# Altium schematic symbol library Capacitors - Ceramic - 01005.SchLib: 571 symbols (part 10 of 13)
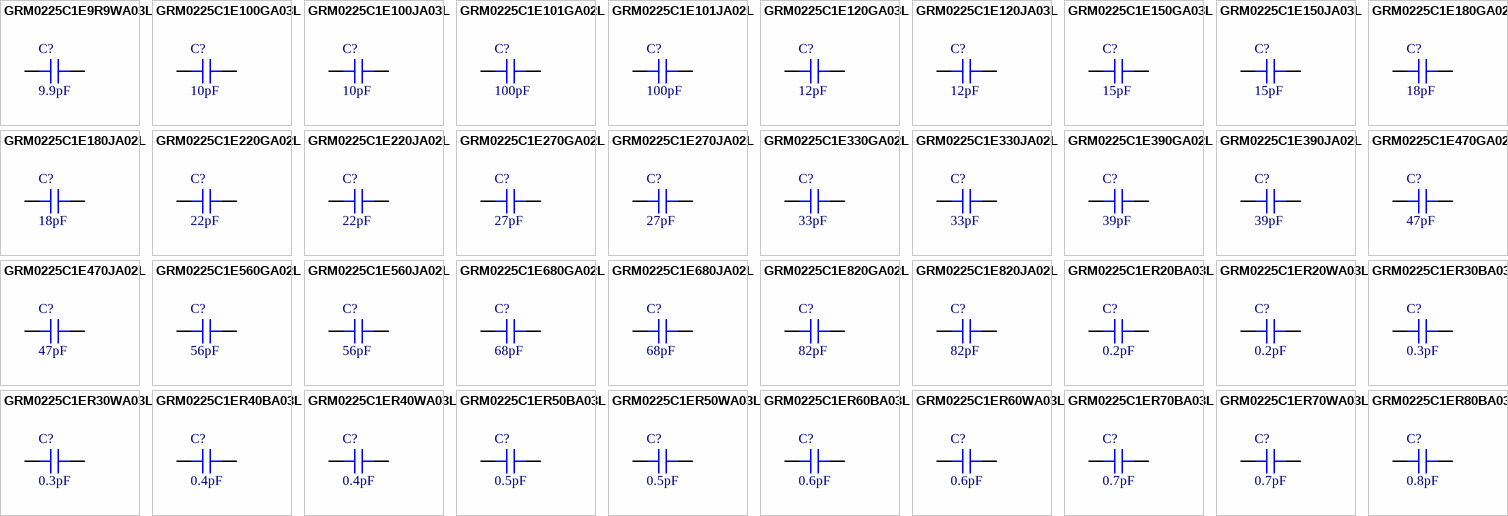
[diagram p23: symbols GRM0225C1E9R9WA03L to GRM0225C1ER80BA03L]

## GRM0225C1E470GA02L
designator C?, comment 47pF
CAP CER 47PF 25V C0G/NP0 01005; Part Number: GRM0225C1E470GA02L; Manufacturer: Murata Electronics; Temperature Coefficient: C0G, NP0; Tolerance: ±2%; Value: 47pF; Applications: General Purpose; Capacitance: 47pF; ComponentLink1Description: Datasheet; ComponentLink1URL: https://search.murata.co.jp/Ceramy/image/img/A01X/G101/ENG/GRM0225C1E470GA02-01.pdf; ComponentLink2Description: DigiKey Link; ComponentLink2URL: http://digikey.com/product-detail/en/murata-electronics/GRM0225C1E470GA02L/490-10133-1-ND/5026000; Device Package: 01005 (0402 Metric); LastUpdated: 9/2/2020 1:27:43 AM; Lifecycle Status: Active; Minimum Order: 1; Mounting Type: Surface Mount, MLCC; Operating Temperature: -55°C ~ 125°C; Package / Case: 01005 (0402 Metric); Packaging: TapeAndReel; Part Status: Active; Price: 0.01; Series: GRM; Size / Dimension: 0.016" L x 0.008" W (0.40mm x 0.20mm); Supplier 1: DigiKey; Supplier Part Number 1: 490-10133-1-ND; Thickness (Max): 0.009" (0.22mm); Voltage - Rated: 25V
footprint CAP 01005_0402
pins: 1, 2

## GRM0225C1E470JA02L
designator C?, comment 47pF
CAP CER 47PF 25V C0G/NP0 01005; Part Number: GRM0225C1E470JA02L; Manufacturer: Murata Electronics; Temperature Coefficient: C0G, NP0; Tolerance: ±5%; Value: 47pF; Applications: General Purpose; Capacitance: 47pF; ComponentLink1Description: Datasheet; ComponentLink1URL: https://search.murata.co.jp/Ceramy/image/img/A01X/G101/ENG/GRM0225C1E470JA02-01.pdf; ComponentLink2Description: DigiKey Link; ComponentLink2URL: http://digikey.com/product-detail/en/murata-electronics/GRM0225C1E470JA02L/490-10134-1-ND/5026001; Device Package: 01005 (0402 Metric); LastUpdated: 9/2/2020 1:27:44 AM; Lifecycle Status: Active; Minimum Order: 1; Mounting Type: Surface Mount, MLCC; Operating Temperature: -55°C ~ 125°C; Package / Case: 01005 (0402 Metric); Packaging: TapeAndReel; Part Status: Active; Price: 0.01; Series: GRM; Size / Dimension: 0.016" L x 0.008" W (0.40mm x 0.20mm); Supplier 1: DigiKey; Supplier Part Number 1: 490-10134-1-ND; Thickness (Max): 0.009" (0.22mm); Voltage - Rated: 25V
footprint CAP 01005_0402
pins: 1, 2

## GRM0225C1E560GA02L
designator C?, comment 56pF
CAP CER 56PF 25V C0G/NP0 01005; Part Number: GRM0225C1E560GA02L; Manufacturer: Murata Electronics; Temperature Coefficient: C0G, NP0; Tolerance: ±2%; Value: 56pF; Applications: General Purpose; Capacitance: 56pF; ComponentLink1Description: Datasheet; ComponentLink1URL: https://search.murata.co.jp/Ceramy/image/img/A01X/G101/ENG/GRM0225C1E560GA02-01.pdf; ComponentLink2Description: DigiKey Link; ComponentLink2URL: http://digikey.com/product-detail/en/murata-electronics/GRM0225C1E560GA02L/490-10165-1-ND/5026032; Device Package: 01005 (0402 Metric); LastUpdated: 9/2/2020 1:27:43 AM; Lifecycle Status: Active; Minimum Order: 1; Mounting Type: Surface Mount, MLCC; Operating Temperature: -55°C ~ 125°C; Package / Case: 01005 (0402 Metric); Packaging: TapeAndReel; Part Status: Active; Price: 0.01; Series: GRM; Size / Dimension: 0.016" L x 0.008" W (0.40mm x 0.20mm); Supplier 1: DigiKey; Supplier Part Number 1: 490-10165-1-ND; Thickness (Max): 0.009" (0.22mm); Voltage - Rated: 25V
footprint CAP 01005_0402
pins: 1, 2

## GRM0225C1E560JA02L
designator C?, comment 56pF
CAP CER 56PF 25V C0G/NP0 01005; Part Number: GRM0225C1E560JA02L; Manufacturer: Murata Electronics; Temperature Coefficient: C0G, NP0; Tolerance: ±5%; Value: 56pF; Applications: General Purpose; Capacitance: 56pF; ComponentLink1Description: Datasheet; ComponentLink1URL: https://search.murata.co.jp/Ceramy/image/img/A01X/G101/ENG/GRM0225C1E560JA02-01.pdf; ComponentLink2Description: DigiKey Link; ComponentLink2URL: http://digikey.com/product-detail/en/murata-electronics/GRM0225C1E560JA02L/490-10166-1-ND/5026033; Device Package: 01005 (0402 Metric); LastUpdated: 9/2/2020 1:27:43 AM; Lifecycle Status: Active; Minimum Order: 1; Mounting Type: Surface Mount, MLCC; Operating Temperature: -55°C ~ 125°C; Package / Case: 01005 (0402 Metric); Packaging: TapeAndReel; Part Status: Active; Price: 0.01; Series: GRM; Size / Dimension: 0.016" L x 0.008" W (0.40mm x 0.20mm); Supplier 1: DigiKey; Supplier Part Number 1: 490-10166-1-ND; Thickness (Max): 0.009" (0.22mm); Voltage - Rated: 25V
footprint CAP 01005_0402
pins: 1, 2

## GRM0225C1E680GA02L
designator C?, comment 68pF
CAP CER 68PF 25V C0G/NP0 01005; Part Number: GRM0225C1E680GA02L; Manufacturer: Murata Electronics; Temperature Coefficient: C0G, NP0; Tolerance: ±2%; Value: 68pF; Applications: General Purpose; Capacitance: 68pF; ComponentLink1Description: Datasheet; ComponentLink1URL: https://search.murata.co.jp/Ceramy/image/img/A01X/G101/ENG/GRM0225C1E680GA02-01.pdf; ComponentLink2Description: DigiKey Link; ComponentLink2URL: http://digikey.com/product-detail/en/murata-electronics/GRM0225C1E680GA02L/490-10206-1-ND/5026073; Device Package: 01005 (0402 Metric); LastUpdated: 9/2/2020 1:27:43 AM; Lifecycle Status: Active; Minimum Order: 1; Mounting Type: Surface Mount, MLCC; Operating Temperature: -55°C ~ 125°C; Package / Case: 01005 (0402 Metric); Packaging: TapeAndReel; Part Status: Active; Price: 0.01; Series: GRM; Size / Dimension: 0.016" L x 0.008" W (0.40mm x 0.20mm); Supplier 1: DigiKey; Supplier Part Number 1: 490-10206-1-ND; Thickness (Max): 0.009" (0.22mm); Voltage - Rated: 25V
footprint CAP 01005_0402
pins: 1, 2

## GRM0225C1E680JA02L
designator C?, comment 68pF
CAP CER 68PF 25V C0G/NP0 01005; Part Number: GRM0225C1E680JA02L; Manufacturer: Murata Electronics; Temperature Coefficient: C0G, NP0; Tolerance: ±5%; Value: 68pF; Applications: General Purpose; Capacitance: 68pF; ComponentLink1Description: Datasheet; ComponentLink1URL: https://search.murata.co.jp/Ceramy/image/img/A01X/G101/ENG/GRM0225C1E680JA02-01.pdf; ComponentLink2Description: DigiKey Link; ComponentLink2URL: http://digikey.com/product-detail/en/murata-electronics/GRM0225C1E680JA02L/490-10207-1-ND/5026074; Device Package: 01005 (0402 Metric); LastUpdated: 9/2/2020 1:27:44 AM; Lifecycle Status: Active; Minimum Order: 1; Mounting Type: Surface Mount, MLCC; Operating Temperature: -55°C ~ 125°C; Package / Case: 01005 (0402 Metric); Packaging: TapeAndReel; Part Status: Active; Price: 0.01; Series: GRM; Size / Dimension: 0.016" L x 0.008" W (0.40mm x 0.20mm); Supplier 1: DigiKey; Supplier Part Number 1: 490-10207-1-ND; Thickness (Max): 0.009" (0.22mm); Voltage - Rated: 25V
footprint CAP 01005_0402
pins: 1, 2

## GRM0225C1E820GA02L
designator C?, comment 82pF
CAP CER 82PF 25V C0G/NP0 01005; Part Number: GRM0225C1E820GA02L; Manufacturer: Murata Electronics; Temperature Coefficient: C0G, NP0; Tolerance: ±2%; Value: 82pF; Applications: General Purpose; Capacitance: 82pF; ComponentLink1Description: Datasheet; ComponentLink1URL: https://www.murata.com/~/media/webrenewal/support/library/catalog/products/capacitor/mlcc/c02e.ashx?la=en-us; ComponentLink2Description: DigiKey Link; ComponentLink2URL: http://digikey.com/product-detail/en/murata-electronics/GRM0225C1E820GA02L/490-10288-1-ND/5026155; Device Package: 01005 (0402 Metric); LastUpdated: 9/2/2020 1:27:44 AM; Lifecycle Status: Active; Minimum Order: 1; Mounting Type: Surface Mount, MLCC; Operating Temperature: -55°C ~ 125°C; Package / Case: 01005 (0402 Metric); Packaging: TapeAndReel; Part Status: Active; Price: 0.01; Series: GRM; Size / Dimension: 0.016" L x 0.008" W (0.40mm x 0.20mm); Supplier 1: DigiKey; Supplier Part Number 1: 490-10288-1-ND; Thickness (Max): 0.009" (0.22mm); Voltage - Rated: 25V
footprint CAP 01005_0402
pins: 1, 2

## GRM0225C1E820JA02L
designator C?, comment 82pF
CAP CER 82PF 25V C0G/NP0 01005; Part Number: GRM0225C1E820JA02L; Manufacturer: Murata Electronics; Temperature Coefficient: C0G, NP0; Tolerance: ±5%; Value: 82pF; Applications: General Purpose; Capacitance: 82pF; ComponentLink1Description: Datasheet; ComponentLink1URL: https://search.murata.co.jp/Ceramy/image/img/A01X/G101/ENG/GRM0225C1E820JA02-01.pdf; ComponentLink2Description: DigiKey Link; ComponentLink2URL: http://digikey.com/product-detail/en/murata-electronics/GRM0225C1E820JA02L/490-10289-1-ND/5026156; Device Package: 01005 (0402 Metric); LastUpdated: 9/2/2020 1:27:44 AM; Lifecycle Status: Active; Minimum Order: 1; Mounting Type: Surface Mount, MLCC; Operating Temperature: -55°C ~ 125°C; Package / Case: 01005 (0402 Metric); Packaging: TapeAndReel; Part Status: Active; Price: 0.01; Series: GRM; Size / Dimension: 0.016" L x 0.008" W (0.40mm x 0.20mm); Supplier 1: DigiKey; Supplier Part Number 1: 490-10289-1-ND; Thickness (Max): 0.009" (0.22mm); Voltage - Rated: 25V
footprint CAP 01005_0402
pins: 1, 2

## GRM0225C1ER20BA03L
designator C?, comment 0.2pF
CAP CER 0.2PF 25V C0G/NP0 01005; Part Number: GRM0225C1ER20BA03L; Manufacturer: Murata Electronics; Temperature Coefficient: C0G, NP0; Tolerance: ±0.1pF; Value: 0.2pF; Applications: General Purpose; Capacitance: 0.2pF; ComponentLink1Description: Datasheet; ComponentLink1URL: https://search.murata.co.jp/Ceramy/image/img/A01X/G101/ENG/GRM0225C1ER20BA03-01.pdf; ComponentLink2Description: DigiKey Link; ComponentLink2URL: http://digikey.com/product-detail/en/murata-electronics/GRM0225C1ER20BA03L/490-13793-1-ND/6048535; Device Package: 01005 (0402 Metric); LastUpdated: 9/2/2020 1:27:44 AM; Lifecycle Status: Active; Minimum Order: 1; Mounting Type: Surface Mount, MLCC; Operating Temperature: -55°C ~ 125°C; Package / Case: 01005 (0402 Metric); Packaging: TapeAndReel; Part Status: Active; Price: 0.01; Series: GRM; Size / Dimension: 0.016" L x 0.008" W (0.40mm x 0.20mm); Supplier 1: DigiKey; Supplier Part Number 1: 490-13793-1-ND; Thickness (Max): 0.009" (0.22mm); Voltage - Rated: 25V
footprint CAP 01005_0402
pins: 1, 2

## GRM0225C1ER20WA03L
designator C?, comment 0.2pF
CAP CER 0.2PF 25V C0G/NP0 01005; Part Number: GRM0225C1ER20WA03L; Manufacturer: Murata Electronics; Temperature Coefficient: C0G, NP0; Tolerance: ±0.05pF; Value: 0.2pF; Applications: General Purpose; Capacitance: 0.2pF; ComponentLink1Description: Datasheet; ComponentLink1URL: https://search.murata.co.jp/Ceramy/image/img/A01X/G101/ENG/GRM0225C1ER20WA03-01.pdf; ComponentLink2Description: DigiKey Link; ComponentLink2URL: http://digikey.com/product-detail/en/murata-electronics/GRM0225C1ER20WA03L/490-13794-1-ND/6048536; Device Package: 01005 (0402 Metric); LastUpdated: 9/2/2020 1:27:43 AM; Lifecycle Status: Active; Minimum Order: 1; Mounting Type: Surface Mount, MLCC; Operating Temperature: -55°C ~ 125°C; Package / Case: 01005 (0402 Metric); Packaging: TapeAndReel; Part Status: Active; Price: 0.02; Series: GRM; Size / Dimension: 0.016" L x 0.008" W (0.40mm x 0.20mm); Supplier 1: DigiKey; Supplier Part Number 1: 490-13794-1-ND; Thickness (Max): 0.009" (0.22mm); Voltage - Rated: 25V
footprint CAP 01005_0402
pins: 1, 2

## GRM0225C1ER30BA03L
designator C?, comment 0.3pF
CAP CER 0.3PF 25V C0G/NP0 01005; Part Number: GRM0225C1ER30BA03L; Manufacturer: Murata Electronics; Temperature Coefficient: C0G, NP0; Tolerance: ±0.1pF; Value: 0.3pF; Applications: General Purpose; Capacitance: 0.3pF; ComponentLink1Description: Datasheet; ComponentLink1URL: https://search.murata.co.jp/Ceramy/image/img/A01X/G101/ENG/GRM0225C1ER30BA03-01.pdf; ComponentLink2Description: DigiKey Link; ComponentLink2URL: http://digikey.com/product-detail/en/murata-electronics/GRM0225C1ER30BA03L/490-13795-1-ND/6048537; Device Package: 01005 (0402 Metric); LastUpdated: 9/2/2020 1:27:44 AM; Lifecycle Status: Active; Minimum Order: 1; Mounting Type: Surface Mount, MLCC; Operating Temperature: -55°C ~ 125°C; Package / Case: 01005 (0402 Metric); Packaging: TapeAndReel; Part Status: Active; Price: 0.01; Series: GRM; Size / Dimension: 0.016" L x 0.008" W (0.40mm x 0.20mm); Supplier 1: DigiKey; Supplier Part Number 1: 490-13795-1-ND; Thickness (Max): 0.009" (0.22mm); Voltage - Rated: 25V
footprint CAP 01005_0402
pins: 1, 2

## GRM0225C1ER30WA03L
designator C?, comment 0.3pF
CAP CER 0.3PF 25V C0G/NP0 01005; Part Number: GRM0225C1ER30WA03L; Manufacturer: Murata Electronics; Temperature Coefficient: C0G, NP0; Tolerance: ±0.05pF; Value: 0.3pF; Applications: General Purpose; Capacitance: 0.3pF; ComponentLink1Description: Datasheet; ComponentLink1URL: https://search.murata.co.jp/Ceramy/image/img/A01X/G101/ENG/GRM0225C1ER30WA03-01.pdf; ComponentLink2Description: DigiKey Link; ComponentLink2URL: http://digikey.com/product-detail/en/murata-electronics/GRM0225C1ER30WA03L/490-13796-1-ND/6048538; Device Package: 01005 (0402 Metric); LastUpdated: 9/2/2020 1:27:43 AM; Lifecycle Status: Active; Minimum Order: 1; Mounting Type: Surface Mount, MLCC; Operating Temperature: -55°C ~ 125°C; Package / Case: 01005 (0402 Metric); Packaging: TapeAndReel; Part Status: Active; Price: 0.02; Series: GRM; Size / Dimension: 0.016" L x 0.008" W (0.40mm x 0.20mm); Supplier 1: DigiKey; Supplier Part Number 1: 490-13796-1-ND; Thickness (Max): 0.009" (0.22mm); Voltage - Rated: 25V
footprint CAP 01005_0402
pins: 1, 2

## GRM0225C1ER40BA03L
designator C?, comment 0.4pF
CAP CER 0.4PF 25V C0G/NP0 01005; Part Number: GRM0225C1ER40BA03L; Manufacturer: Murata Electronics; Temperature Coefficient: C0G, NP0; Tolerance: ±0.1pF; Value: 0.4pF; Applications: General Purpose; Capacitance: 0.4pF; ComponentLink1Description: Datasheet; ComponentLink1URL: https://search.murata.co.jp/Ceramy/image/img/A01X/G101/ENG/GRM0225C1ER40BA03-01.pdf; ComponentLink2Description: DigiKey Link; ComponentLink2URL: http://digikey.com/product-detail/en/murata-electronics/GRM0225C1ER40BA03L/490-13797-1-ND/6048539; Device Package: 01005 (0402 Metric); LastUpdated: 9/2/2020 1:27:44 AM; Lifecycle Status: Active; Minimum Order: 1; Mounting Type: Surface Mount, MLCC; Operating Temperature: -55°C ~ 125°C; Package / Case: 01005 (0402 Metric); Packaging: TapeAndReel; Part Status: Active; Price: 0.01; Series: GRM; Size / Dimension: 0.016" L x 0.008" W (0.40mm x 0.20mm); Supplier 1: DigiKey; Supplier Part Number 1: 490-13797-1-ND; Thickness (Max): 0.009" (0.22mm); Voltage - Rated: 25V
footprint CAP 01005_0402
pins: 1, 2

## GRM0225C1ER40WA03L
designator C?, comment 0.4pF
CAP CER 0.4PF 25V C0G/NP0 01005; Part Number: GRM0225C1ER40WA03L; Manufacturer: Murata Electronics; Temperature Coefficient: C0G, NP0; Tolerance: ±0.05pF; Value: 0.4pF; Applications: General Purpose; Capacitance: 0.4pF; ComponentLink1Description: Datasheet; ComponentLink1URL: https://search.murata.co.jp/Ceramy/image/img/A01X/G101/ENG/GRM0225C1ER40WA03-01.pdf; ComponentLink2Description: DigiKey Link; ComponentLink2URL: http://digikey.com/product-detail/en/murata-electronics/GRM0225C1ER40WA03L/490-13798-1-ND/6048540; Device Package: 01005 (0402 Metric); LastUpdated: 9/2/2020 1:27:43 AM; Lifecycle Status: Active; Minimum Order: 1; Mounting Type: Surface Mount, MLCC; Operating Temperature: -55°C ~ 125°C; Package / Case: 01005 (0402 Metric); Packaging: TapeAndReel; Part Status: Active; Price: 0.02; Series: GRM; Size / Dimension: 0.016" L x 0.008" W (0.40mm x 0.20mm); Supplier 1: DigiKey; Supplier Part Number 1: 490-13798-1-ND; Thickness (Max): 0.009" (0.22mm); Voltage - Rated: 25V
footprint CAP 01005_0402
pins: 1, 2

## GRM0225C1ER50BA03L
designator C?, comment 0.5pF
CAP CER 0.5PF 25V C0G/NP0 01005; Part Number: GRM0225C1ER50BA03L; Manufacturer: Murata Electronics; Temperature Coefficient: C0G, NP0; Tolerance: ±0.1pF; Value: 0.5pF; Applications: General Purpose; Capacitance: 0.5pF; ComponentLink1Description: Datasheet; ComponentLink1URL: https://search.murata.co.jp/Ceramy/image/img/A01X/G101/ENG/GRM0225C1ER50BA03-01.pdf; ComponentLink2Description: DigiKey Link; ComponentLink2URL: http://digikey.com/product-detail/en/murata-electronics/GRM0225C1ER50BA03L/490-13799-1-ND/6048541; Device Package: 01005 (0402 Metric); LastUpdated: 9/2/2020 1:27:44 AM; Lifecycle Status: Active; Minimum Order: 1; Mounting Type: Surface Mount, MLCC; Operating Temperature: -55°C ~ 125°C; Package / Case: 01005 (0402 Metric); Packaging: TapeAndReel; Part Status: Active; Price: 0.01; Series: GRM; Size / Dimension: 0.016" L x 0.008" W (0.40mm x 0.20mm); Supplier 1: DigiKey; Supplier Part Number 1: 490-13799-1-ND; Thickness (Max): 0.009" (0.22mm); Voltage - Rated: 25V
footprint CAP 01005_0402
pins: 1, 2

## GRM0225C1ER50WA03L
designator C?, comment 0.5pF
CAP CER 0.5PF 25V C0G/NP0 01005; Part Number: GRM0225C1ER50WA03L; Manufacturer: Murata Electronics; Temperature Coefficient: C0G, NP0; Tolerance: ±0.05pF; Value: 0.5pF; Applications: General Purpose; Capacitance: 0.5pF; ComponentLink1Description: Datasheet; ComponentLink1URL: https://search.murata.co.jp/Ceramy/image/img/A01X/G101/ENG/GRM0225C1ER50WA03-01.pdf; ComponentLink2Description: DigiKey Link; ComponentLink2URL: http://digikey.com/product-detail/en/murata-electronics/GRM0225C1ER50WA03L/490-13800-1-ND/6048542; Device Package: 01005 (0402 Metric); LastUpdated: 9/2/2020 1:27:43 AM; Lifecycle Status: Active; Minimum Order: 1; Mounting Type: Surface Mount, MLCC; Operating Temperature: -55°C ~ 125°C; Package / Case: 01005 (0402 Metric); Packaging: TapeAndReel; Part Status: Active; Price: 0.02; Series: GRM; Size / Dimension: 0.016" L x 0.008" W (0.40mm x 0.20mm); Supplier 1: DigiKey; Supplier Part Number 1: 490-13800-1-ND; Thickness (Max): 0.009" (0.22mm); Voltage - Rated: 25V
footprint CAP 01005_0402
pins: 1, 2

## GRM0225C1ER60BA03L
designator C?, comment 0.6pF
CAP CER 0.6PF 25V C0G/NP0 01005; Part Number: GRM0225C1ER60BA03L; Manufacturer: Murata Electronics; Temperature Coefficient: C0G, NP0; Tolerance: ±0.1pF; Value: 0.6pF; Applications: General Purpose; Capacitance: 0.6pF; ComponentLink1Description: Datasheet; ComponentLink1URL: https://search.murata.co.jp/Ceramy/image/img/A01X/G101/ENG/GRM0225C1ER60BA03-01.pdf; ComponentLink2Description: DigiKey Link; ComponentLink2URL: http://digikey.com/product-detail/en/murata-electronics/GRM0225C1ER60BA03L/490-13801-1-ND/6048543; Device Package: 01005 (0402 Metric); LastUpdated: 9/2/2020 1:27:44 AM; Lifecycle Status: Active; Minimum Order: 1; Mounting Type: Surface Mount, MLCC; Operating Temperature: -55°C ~ 125°C; Package / Case: 01005 (0402 Metric); Packaging: TapeAndReel; Part Status: Active; Price: 0.01; Series: GRM; Size / Dimension: 0.016" L x 0.008" W (0.40mm x 0.20mm); Supplier 1: DigiKey; Supplier Part Number 1: 490-13801-1-ND; Thickness (Max): 0.009" (0.22mm); Voltage - Rated: 25V
footprint CAP 01005_0402
pins: 1, 2

## GRM0225C1ER60WA03L
designator C?, comment 0.6pF
CAP CER 0.6PF 25V C0G/NP0 01005; Part Number: GRM0225C1ER60WA03L; Manufacturer: Murata Electronics; Temperature Coefficient: C0G, NP0; Tolerance: ±0.05pF; Value: 0.6pF; Applications: General Purpose; Capacitance: 0.6pF; ComponentLink1Description: Datasheet; ComponentLink1URL: https://search.murata.co.jp/Ceramy/image/img/A01X/G101/ENG/GRM0225C1ER60WA03-01.pdf; ComponentLink2Description: DigiKey Link; ComponentLink2URL: http://digikey.com/product-detail/en/murata-electronics/GRM0225C1ER60WA03L/490-13802-1-ND/6048544; Device Package: 01005 (0402 Metric); LastUpdated: 9/2/2020 1:27:43 AM; Lifecycle Status: Active; Minimum Order: 1; Mounting Type: Surface Mount, MLCC; Operating Temperature: -55°C ~ 125°C; Package / Case: 01005 (0402 Metric); Packaging: TapeAndReel; Part Status: Active; Price: 0.02; Series: GRM; Size / Dimension: 0.016" L x 0.008" W (0.40mm x 0.20mm); Supplier 1: DigiKey; Supplier Part Number 1: 490-13802-1-ND; Thickness (Max): 0.009" (0.22mm); Voltage - Rated: 25V
footprint CAP 01005_0402
pins: 1, 2

## GRM0225C1ER70BA03L
designator C?, comment 0.7pF
CAP CER 0.7PF 25V C0G/NP0 01005; Part Number: GRM0225C1ER70BA03L; Manufacturer: Murata Electronics; Temperature Coefficient: C0G, NP0; Tolerance: ±0.1pF; Value: 0.7pF; Applications: General Purpose; Capacitance: 0.7pF; ComponentLink1Description: Datasheet; ComponentLink1URL: https://search.murata.co.jp/Ceramy/image/img/A01X/G101/ENG/GRM0225C1ER70BA03-01.pdf; ComponentLink2Description: DigiKey Link; ComponentLink2URL: http://digikey.com/product-detail/en/murata-electronics/GRM0225C1ER70BA03L/490-13803-1-ND/6048545; Device Package: 01005 (0402 Metric); LastUpdated: 9/2/2020 1:27:44 AM; Lifecycle Status: Active; Minimum Order: 1; Mounting Type: Surface Mount, MLCC; Operating Temperature: -55°C ~ 125°C; Package / Case: 01005 (0402 Metric); Packaging: TapeAndReel; Part Status: Active; Price: 0.01; Series: GRM; Size / Dimension: 0.016" L x 0.008" W (0.40mm x 0.20mm); Supplier 1: DigiKey; Supplier Part Number 1: 490-13803-1-ND; Thickness (Max): 0.009" (0.22mm); Voltage - Rated: 25V
footprint CAP 01005_0402
pins: 1, 2

## GRM0225C1ER70WA03L
designator C?, comment 0.7pF
CAP CER 0.7PF 25V C0G/NP0 01005; Part Number: GRM0225C1ER70WA03L; Manufacturer: Murata Electronics; Temperature Coefficient: C0G, NP0; Tolerance: ±0.05pF; Value: 0.7pF; Applications: General Purpose; Capacitance: 0.7pF; ComponentLink1Description: Datasheet; ComponentLink1URL: https://search.murata.co.jp/Ceramy/image/img/A01X/G101/ENG/GRM0225C1ER70WA03-01.pdf; ComponentLink2Description: DigiKey Link; ComponentLink2URL: http://digikey.com/product-detail/en/murata-electronics/GRM0225C1ER70WA03L/490-13804-1-ND/6048546; Device Package: 01005 (0402 Metric); LastUpdated: 9/2/2020 1:27:43 AM; Lifecycle Status: Active; Minimum Order: 1; Mounting Type: Surface Mount, MLCC; Operating Temperature: -55°C ~ 125°C; Package / Case: 01005 (0402 Metric); Packaging: TapeAndReel; Part Status: Active; Price: 0.02; Series: GRM; Size / Dimension: 0.016" L x 0.008" W (0.40mm x 0.20mm); Supplier 1: DigiKey; Supplier Part Number 1: 490-13804-1-ND; Thickness (Max): 0.009" (0.22mm); Voltage - Rated: 25V
footprint CAP 01005_0402
pins: 1, 2

## GRM0225C1ER80BA03L
designator C?, comment 0.8pF
CAP CER 0.8PF 25V C0G/NP0 01005; Part Number: GRM0225C1ER80BA03L; Manufacturer: Murata Electronics; Temperature Coefficient: C0G, NP0; Tolerance: ±0.1pF; Value: 0.8pF; Applications: General Purpose; Capacitance: 0.8pF; ComponentLink1Description: Datasheet; ComponentLink1URL: https://www.murata.com/~/media/webrenewal/support/library/catalog/products/capacitor/mlcc/c02e.ashx?la=en-us; ComponentLink2Description: DigiKey Link; ComponentLink2URL: http://digikey.com/product-detail/en/murata-electronics/GRM0225C1ER80BA03L/490-13805-1-ND/6048547; Device Package: 01005 (0402 Metric); LastUpdated: 9/2/2020 1:27:44 AM; Lifecycle Status: Active; Minimum Order: 1; Mounting Type: Surface Mount, MLCC; Operating Temperature: -55°C ~ 125°C; Package / Case: 01005 (0402 Metric); Packaging: TapeAndReel; Part Status: Active; Price: 0.01; Series: GRM; Size / Dimension: 0.016" L x 0.008" W (0.40mm x 0.20mm); Supplier 1: DigiKey; Supplier Part Number 1: 490-13805-1-ND; Thickness (Max): 0.009" (0.22mm); Voltage - Rated: 25V
footprint CAP 01005_0402
pins: 1, 2

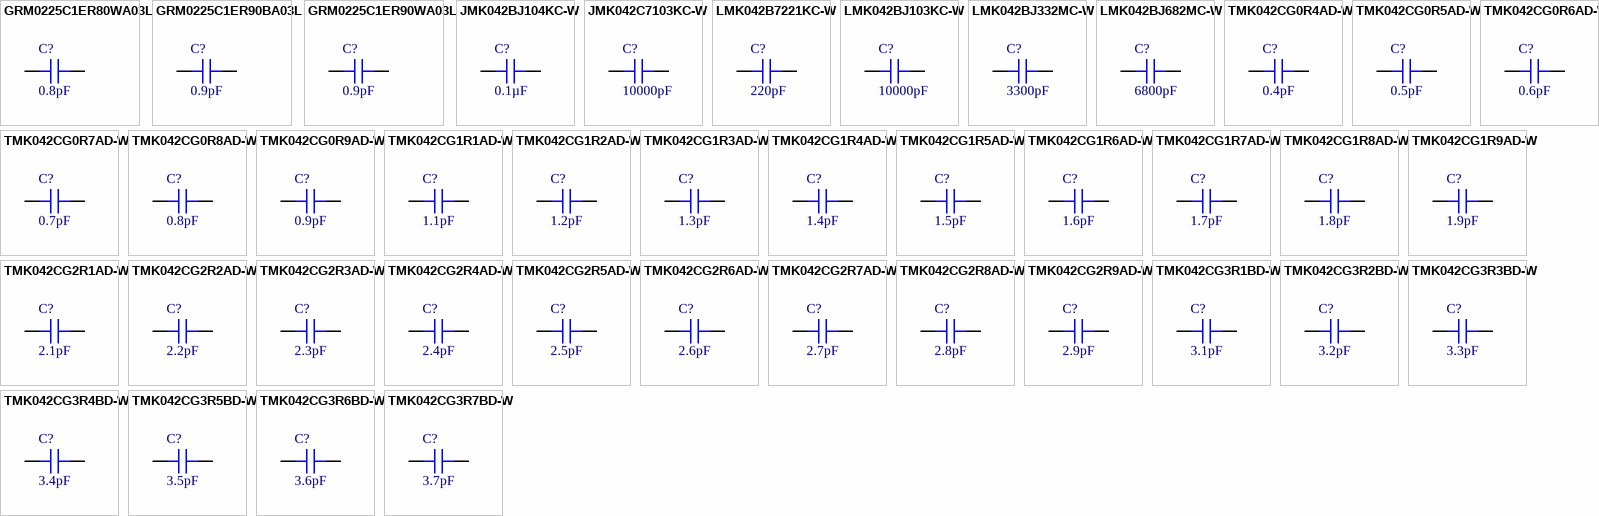
[diagram p11: symbols GRM0225C1ER80WA03L to TMK042CG3R7BD-W]

## GRM0225C1ER80WA03L
designator C?, comment 0.8pF
CAP CER 0.8PF 25V C0G/NP0 01005; Part Number: GRM0225C1ER80WA03L; Manufacturer: Murata Electronics; Temperature Coefficient: C0G, NP0; Tolerance: ±0.05pF; Value: 0.8pF; Applications: General Purpose; Capacitance: 0.8pF; ComponentLink1Description: Datasheet; ComponentLink1URL: https://search.murata.co.jp/Ceramy/image/img/A01X/G101/ENG/GRM0225C1ER80WA03-01.pdf; ComponentLink2Description: DigiKey Link; ComponentLink2URL: http://digikey.com/product-detail/en/murata-electronics/GRM0225C1ER80WA03L/490-13806-1-ND/6048548; Device Package: 01005 (0402 Metric); LastUpdated: 9/2/2020 1:27:43 AM; Lifecycle Status: Active; Minimum Order: 1; Mounting Type: Surface Mount, MLCC; Operating Temperature: -55°C ~ 125°C; Package / Case: 01005 (0402 Metric); Packaging: TapeAndReel; Part Status: Active; Price: 0.02; Series: GRM; Size / Dimension: 0.016" L x 0.008" W (0.40mm x 0.20mm); Supplier 1: DigiKey; Supplier Part Number 1: 490-13806-1-ND; Thickness (Max): 0.009" (0.22mm); Voltage - Rated: 25V
footprint CAP 01005_0402
pins: 1, 2

## GRM0225C1ER90BA03L
designator C?, comment 0.9pF
CAP CER 0.9PF 25V C0G/NP0 01005; Part Number: GRM0225C1ER90BA03L; Manufacturer: Murata Electronics; Temperature Coefficient: C0G, NP0; Tolerance: ±0.1pF; Value: 0.9pF; Applications: General Purpose; Capacitance: 0.9pF; ComponentLink1Description: Datasheet; ComponentLink1URL: https://search.murata.co.jp/Ceramy/image/img/A01X/G101/ENG/GRM0225C1ER90BA03-01.pdf; ComponentLink2Description: DigiKey Link; ComponentLink2URL: http://digikey.com/product-detail/en/murata-electronics/GRM0225C1ER90BA03L/490-13807-1-ND/6048549; Device Package: 01005 (0402 Metric); LastUpdated: 9/2/2020 1:27:44 AM; Lifecycle Status: Active; Minimum Order: 1; Mounting Type: Surface Mount, MLCC; Operating Temperature: -55°C ~ 125°C; Package / Case: 01005 (0402 Metric); Packaging: TapeAndReel; Part Status: Active; Price: 0.01; Series: GRM; Size / Dimension: 0.016" L x 0.008" W (0.40mm x 0.20mm); Supplier 1: DigiKey; Supplier Part Number 1: 490-13807-1-ND; Thickness (Max): 0.009" (0.22mm); Voltage - Rated: 25V
footprint CAP 01005_0402
pins: 1, 2

## GRM0225C1ER90WA03L
designator C?, comment 0.9pF
CAP CER 0.9PF 25V C0G/NP0 01005; Part Number: GRM0225C1ER90WA03L; Manufacturer: Murata Electronics; Temperature Coefficient: C0G, NP0; Tolerance: ±0.05pF; Value: 0.9pF; Applications: General Purpose; Capacitance: 0.9pF; ComponentLink1Description: Datasheet; ComponentLink1URL: https://www.murata.com/~/media/webrenewal/support/library/catalog/products/capacitor/mlcc/c02e.ashx?la=en-us; ComponentLink2Description: DigiKey Link; ComponentLink2URL: http://digikey.com/product-detail/en/murata-electronics/GRM0225C1ER90WA03L/490-13808-1-ND/6048550; Device Package: 01005 (0402 Metric); LastUpdated: 9/2/2020 1:27:43 AM; Lifecycle Status: Active; Minimum Order: 1; Mounting Type: Surface Mount, MLCC; Operating Temperature: -55°C ~ 125°C; Package / Case: 01005 (0402 Metric); Packaging: TapeAndReel; Part Status: Active; Price: 0.02; Series: GRM; Size / Dimension: 0.016" L x 0.008" W (0.40mm x 0.20mm); Supplier 1: DigiKey; Supplier Part Number 1: 490-13808-1-ND; Thickness (Max): 0.009" (0.22mm); Voltage - Rated: 25V
footprint CAP 01005_0402
pins: 1, 2

## JMK042BJ104KC-W
designator C?, comment 0.1µF
CAP CER 0.1UF 6.3V X5R 01005; Part Number: JMK042BJ104KC-W; Manufacturer: Taiyo Yuden; Tolerance: ±10%; Value: 0.1µF; Applications: General Purpose; Capacitance: 0.1µF; ComponentLink1Description: Datasheet; ComponentLink1URL: //media.digikey.com/pdf/Data%20Sheets/Taiyo%20Yuden%20PDFs%20URL%20links/JMK042BJ104KC-W_SS.pdf; ComponentLink2Description: DigiKey Link; ComponentLink2URL: http://digikey.com/product-detail/en/taiyo-yuden/JMK042BJ104KC-W/587-5548-1-ND/7067224; Device Package: 01005 (0402 Metric); LastUpdated: 9/2/2020 1:27:44 AM; Lifecycle Status: Active; Minimum Order: 1; Mounting Type: Surface Mount, MLCC; Operating Temperature: -55°C ~ 85°C; Package / Case: 01005 (0402 Metric); Packaging: TapeAndReel; Part Status: Active; Price: 0.02; Series: M; Size / Dimension: 0.016" L x 0.008" W (0.40mm x 0.20mm); Supplier 1: DigiKey; Supplier Part Number 1: 587-5548-1-ND; Temperature Coefficient: X5R; Thickness (Max): 0.009" (0.22mm); Voltage - Rated: 6.3V
footprint CAP 01005_0402
pins: 1, 2

## JMK042C7103KC-W
designator C?, comment 10000pF
CAP CER 10000PF 6.3V X7S 01005; Part Number: JMK042C7103KC-W; Manufacturer: Taiyo Yuden; Tolerance: ±10%; Value: 10000pF; Applications: General Purpose; Capacitance: 10000pF; ComponentLink1Description: Datasheet; ComponentLink1URL: https://www.yuden.co.jp/productdata/catalog/mlcc02_e.pdf; ComponentLink2Description: DigiKey Link; ComponentLink2URL: http://digikey.com/product-detail/en/taiyo-yuden/JMK042C7103KC-W/587-6219-1-ND/9563148; Device Package: 01005 (0402 Metric); LastUpdated: 9/2/2020 1:27:42 AM; Lifecycle Status: Active; Minimum Order: 1; Mounting Type: Surface Mount, MLCC; Operating Temperature: -55°C ~ 125°C; Package / Case: 01005 (0402 Metric); Packaging: CutTape; Part Status: Active; Price: 0.10; Series: M; Size / Dimension: 0.016" L x 0.008" W (0.40mm x 0.20mm); Supplier 1: DigiKey; Supplier Part Number 1: 587-6219-1-ND; Temperature Coefficient: X7S; Thickness (Max): 0.009" (0.22mm); Voltage - Rated: 6.3V
footprint CAP 01005_0402
pins: 1, 2

## LMK042B7221KC-W
designator C?, comment 220pF
CAP CER 220PF 10V X7R 01005; Part Number: LMK042B7221KC-W; Manufacturer: Taiyo Yuden; Tolerance: ±10%; Value: 220pF; Applications: General Purpose; Capacitance: 220pF; ComponentLink1Description: Datasheet; ComponentLink1URL: https://ds.yuden.co.jp/TYCOMPAS/ut/detail?pn=LMK042B7221KC-W &u=M; ComponentLink2Description: DigiKey Link; ComponentLink2URL: http://digikey.com/product-detail/en/taiyo-yuden/LMK042B7221KC-W/587-5911-1-ND/7675031; Device Package: 01005 (0402 Metric); LastUpdated: 9/2/2020 1:27:43 AM; Lifecycle Status: Active; Minimum Order: 1; Mounting Type: Surface Mount, MLCC; Operating Temperature: -55°C ~ 125°C; Package / Case: 01005 (0402 Metric); Packaging: TapeAndReel; Part Status: Active; Price: 0.01; Series: M; Size / Dimension: 0.016" L x 0.008" W (0.40mm x 0.20mm); Supplier 1: DigiKey; Supplier Part Number 1: 587-5911-1-ND; Temperature Coefficient: X7R; Thickness (Max): 0.009" (0.22mm); Voltage - Rated: 10V
footprint CAP 01005_0402
pins: 1, 2

## LMK042BJ103KC-W
designator C?, comment 10000pF
CAP CER 10000PF 10V X5R 01005; Part Number: LMK042BJ103KC-W; Manufacturer: Taiyo Yuden; Tolerance: ±10%; Value: 10000pF; Applications: General Purpose; Capacitance: 10000pF; ComponentLink1Description: Datasheet; ComponentLink1URL: https://ds.yuden.co.jp/TYCOMPAS/ut/detail?pn=LMK042BJ103KC-W &u=M; ComponentLink2Description: DigiKey Link; ComponentLink2URL: http://digikey.com/product-detail/en/taiyo-yuden/LMK042BJ103KC-W/587-6135-1-ND/8619538; Device Package: 01005 (0402 Metric); LastUpdated: 9/2/2020 1:27:43 AM; Lifecycle Status: Active; Minimum Order: 1; Mounting Type: Surface Mount, MLCC; Operating Temperature: -55°C ~ 85°C; Package / Case: 01005 (0402 Metric); Packaging: TapeAndReel; Part Status: Active; Price: 0.02; Series: M; Size / Dimension: 0.016" L x 0.008" W (0.40mm x 0.20mm); Supplier 1: DigiKey; Supplier Part Number 1: 587-6135-1-ND; Temperature Coefficient: X5R; Thickness (Max): 0.009" (0.22mm); Voltage - Rated: 10V
footprint CAP 01005_0402
pins: 1, 2

## LMK042BJ332MC-W
designator C?, comment 3300pF
CAP CER 3300PF 10V X5R 01005; Part Number: LMK042BJ332MC-W; Manufacturer: Taiyo Yuden; Tolerance: ±20%; Value: 3300pF; Applications: SMPS Filtering; Capacitance: 3300pF; ComponentLink1Description: Datasheet; ComponentLink1URL: https://ds.yuden.co.jp/TYCOMPAS/ut/detail?pn=LMK042BJ332MC-W &u=M; ComponentLink2Description: DigiKey Link; ComponentLink2URL: http://digikey.com/product-detail/en/taiyo-yuden/LMK042BJ332MC-W/587-5459-1-ND/7067135; Device Package: 01005 (0402 Metric); LastUpdated: 9/2/2020 1:27:43 AM; Lifecycle Status: Active; Minimum Order: 1; Mounting Type: Surface Mount, MLCC; Operating Temperature: -55°C ~ 85°C; Package / Case: 01005 (0402 Metric); Packaging: TapeAndReel; Part Status: Active; Price: 0.01; Series: M; Size / Dimension: 0.016" L x 0.008" W (0.40mm x 0.20mm); Supplier 1: DigiKey; Supplier Part Number 1: 587-5459-1-ND; Temperature Coefficient: X5R; Thickness (Max): 0.009" (0.22mm); Voltage - Rated: 10V
footprint CAP 01005_0402
pins: 1, 2

## LMK042BJ682MC-W
designator C?, comment 6800pF
CAP CER 6800PF 10V X5R 01005; Part Number: LMK042BJ682MC-W; Manufacturer: Taiyo Yuden; Tolerance: ±20%; Value: 6800pF; Applications: SMPS Filtering; Capacitance: 6800pF; ComponentLink1Description: Datasheet; ComponentLink1URL: https://ds.yuden.co.jp/TYCOMPAS/ut/detail?pn=LMK042BJ682MC-W &u=M; ComponentLink2Description: DigiKey Link; ComponentLink2URL: http://digikey.com/product-detail/en/taiyo-yuden/LMK042BJ682MC-W/587-5460-1-ND/7067136; Device Package: 01005 (0402 Metric); LastUpdated: 9/2/2020 1:27:43 AM; Lifecycle Status: Active; Minimum Order: 1; Mounting Type: Surface Mount, MLCC; Operating Temperature: -55°C ~ 85°C; Package / Case: 01005 (0402 Metric); Packaging: TapeAndReel; Part Status: Active; Price: 0.01; Series: M; Size / Dimension: 0.016" L x 0.008" W (0.40mm x 0.20mm); Supplier 1: DigiKey; Supplier Part Number 1: 587-5460-1-ND; Temperature Coefficient: X5R; Thickness (Max): 0.009" (0.22mm); Voltage - Rated: 10V
footprint CAP 01005_0402
pins: 1, 2

## TMK042CG0R4AD-W
designator C?, comment 0.4pF
CAP CER 0.4PF 25V C0G/NP0 01005; Part Number: TMK042CG0R4AD-W; Manufacturer: Taiyo Yuden; Temperature Coefficient: C0G, NP0; Tolerance: ±0.05pF; Value: 0.4pF; Applications: General Purpose; Capacitance: 0.4pF; ComponentLink1Description: Datasheet; ComponentLink1URL: https://ds.yuden.co.jp/TYCOMPAS/ut/detail?pn=TMK042CG0R4AD-W &u=M; ComponentLink2Description: DigiKey Link; ComponentLink2URL: http://digikey.com/product-detail/en/taiyo-yuden/TMK042CG0R4AD-W/587-5658-1-ND/7431186; Device Package: 01005 (0402 Metric); LastUpdated: 9/2/2020 1:27:43 AM; Lifecycle Status: Active; Minimum Order: 1; Mounting Type: Surface Mount, MLCC; Operating Temperature: -55°C ~ 125°C; Package / Case: 01005 (0402 Metric); Packaging: TapeAndReel; Part Status: Active; Price: 0.01; Series: M; Size / Dimension: 0.016" L x 0.008" W (0.40mm x 0.20mm); Supplier 1: DigiKey; Supplier Part Number 1: 587-5658-1-ND; Thickness (Max): 0.009" (0.22mm); Voltage - Rated: 25V
footprint CAP 01005_0402
pins: 1, 2

## TMK042CG0R5AD-W
designator C?, comment 0.5pF
CAP CER 0.5PF 25V C0G/NP0 01005; Part Number: TMK042CG0R5AD-W; Manufacturer: Taiyo Yuden; Temperature Coefficient: C0G, NP0; Tolerance: ±0.05pF; Value: 0.5pF; Applications: General Purpose; Capacitance: 0.5pF; ComponentLink1Description: Datasheet; ComponentLink1URL: https://ds.yuden.co.jp/TYCOMPAS/ut/detail?pn=TMK042CG0R5AD-W &u=M; ComponentLink2Description: DigiKey Link; ComponentLink2URL: http://digikey.com/product-detail/en/taiyo-yuden/TMK042CG0R5AD-W/587-5659-1-ND/7431187; Device Package: 01005 (0402 Metric); LastUpdated: 9/2/2020 1:27:43 AM; Lifecycle Status: Active; Minimum Order: 1; Mounting Type: Surface Mount, MLCC; Operating Temperature: -55°C ~ 125°C; Package / Case: 01005 (0402 Metric); Packaging: TapeAndReel; Part Status: Active; Price: 0.01; Series: M; Size / Dimension: 0.016" L x 0.008" W (0.40mm x 0.20mm); Supplier 1: DigiKey; Supplier Part Number 1: 587-5659-1-ND; Thickness (Max): 0.009" (0.22mm); Voltage - Rated: 25V
footprint CAP 01005_0402
pins: 1, 2

## TMK042CG0R6AD-W
designator C?, comment 0.6pF
CAP CER 0.6PF 25V C0G/NP0 01005; Part Number: TMK042CG0R6AD-W; Manufacturer: Taiyo Yuden; Temperature Coefficient: C0G, NP0; Tolerance: ±0.05pF; Value: 0.6pF; Applications: General Purpose; Capacitance: 0.6pF; ComponentLink1Description: Datasheet; ComponentLink1URL: https://ds.yuden.co.jp/TYCOMPAS/ut/detail?pn=TMK042CG0R6AD-W &u=M; ComponentLink2Description: DigiKey Link; ComponentLink2URL: http://digikey.com/product-detail/en/taiyo-yuden/TMK042CG0R6AD-W/587-5660-1-ND/7431188; Device Package: 01005 (0402 Metric); LastUpdated: 9/2/2020 1:27:43 AM; Lifecycle Status: Active; Minimum Order: 1; Mounting Type: Surface Mount, MLCC; Operating Temperature: -55°C ~ 125°C; Package / Case: 01005 (0402 Metric); Packaging: TapeAndReel; Part Status: Active; Price: 0.01; Series: M; Size / Dimension: 0.016" L x 0.008" W (0.40mm x 0.20mm); Supplier 1: DigiKey; Supplier Part Number 1: 587-5660-1-ND; Thickness (Max): 0.009" (0.22mm); Voltage - Rated: 25V
footprint CAP 01005_0402
pins: 1, 2

## TMK042CG0R7AD-W
designator C?, comment 0.7pF
CAP CER 0.7PF 25V C0G/NP0 01005; Part Number: TMK042CG0R7AD-W; Manufacturer: Taiyo Yuden; Temperature Coefficient: C0G, NP0; Tolerance: ±0.05pF; Value: 0.7pF; Applications: General Purpose; Capacitance: 0.7pF; ComponentLink1Description: Datasheet; ComponentLink1URL: https://ds.yuden.co.jp/TYCOMPAS/ut/detail?pn=TMK042CG0R7AD-W &u=M; ComponentLink2Description: DigiKey Link; ComponentLink2URL: http://digikey.com/product-detail/en/taiyo-yuden/TMK042CG0R7AD-W/587-5661-1-ND/7431189; Device Package: 01005 (0402 Metric); LastUpdated: 9/2/2020 1:27:43 AM; Lifecycle Status: Active; Minimum Order: 1; Mounting Type: Surface Mount, MLCC; Operating Temperature: -55°C ~ 125°C; Package / Case: 01005 (0402 Metric); Packaging: TapeAndReel; Part Status: Active; Price: 0.01; Series: M; Size / Dimension: 0.016" L x 0.008" W (0.40mm x 0.20mm); Supplier 1: DigiKey; Supplier Part Number 1: 587-5661-1-ND; Thickness (Max): 0.009" (0.22mm); Voltage - Rated: 25V
footprint CAP 01005_0402
pins: 1, 2

## TMK042CG0R8AD-W
designator C?, comment 0.8pF
CAP CER 0.8PF 25V C0G/NP0 01005; Part Number: TMK042CG0R8AD-W; Manufacturer: Taiyo Yuden; Temperature Coefficient: C0G, NP0; Tolerance: ±0.05pF; Value: 0.8pF; Applications: General Purpose; Capacitance: 0.8pF; ComponentLink1Description: Datasheet; ComponentLink1URL: https://ds.yuden.co.jp/TYCOMPAS/ut/detail?pn=TMK042CG0R8AD-W &u=M; ComponentLink2Description: DigiKey Link; ComponentLink2URL: http://digikey.com/product-detail/en/taiyo-yuden/TMK042CG0R8AD-W/587-5663-1-ND/7431191; Device Package: 01005 (0402 Metric); LastUpdated: 9/2/2020 1:27:43 AM; Lifecycle Status: Active; Minimum Order: 1; Mounting Type: Surface Mount, MLCC; Operating Temperature: -55°C ~ 125°C; Package / Case: 01005 (0402 Metric); Packaging: TapeAndReel; Part Status: Active; Price: 0.01; Series: M; Size / Dimension: 0.016" L x 0.008" W (0.40mm x 0.20mm); Supplier 1: DigiKey; Supplier Part Number 1: 587-5663-1-ND; Thickness (Max): 0.009" (0.22mm); Voltage - Rated: 25V
footprint CAP 01005_0402
pins: 1, 2

## TMK042CG0R9AD-W
designator C?, comment 0.9pF
CAP CER 0.9PF 25V C0G/NP0 01005; Part Number: TMK042CG0R9AD-W; Manufacturer: Taiyo Yuden; Temperature Coefficient: C0G, NP0; Tolerance: ±0.05pF; Value: 0.9pF; Applications: General Purpose; Capacitance: 0.9pF; ComponentLink1Description: Datasheet; ComponentLink1URL: https://ds.yuden.co.jp/TYCOMPAS/ut/detail?pn=TMK042CG0R9AD-W &u=M; ComponentLink2Description: DigiKey Link; ComponentLink2URL: http://digikey.com/product-detail/en/taiyo-yuden/TMK042CG0R9AD-W/587-5664-1-ND/7431192; Device Package: 01005 (0402 Metric); LastUpdated: 9/2/2020 1:27:43 AM; Lifecycle Status: Active; Minimum Order: 1; Mounting Type: Surface Mount, MLCC; Operating Temperature: -55°C ~ 125°C; Package / Case: 01005 (0402 Metric); Packaging: TapeAndReel; Part Status: Active; Price: 0.01; Series: M; Size / Dimension: 0.016" L x 0.008" W (0.40mm x 0.20mm); Supplier 1: DigiKey; Supplier Part Number 1: 587-5664-1-ND; Thickness (Max): 0.009" (0.22mm); Voltage - Rated: 25V
footprint CAP 01005_0402
pins: 1, 2

## TMK042CG1R1AD-W
designator C?, comment 1.1pF
CAP CER 1.1PF 25V C0G/NP0 01005; Part Number: TMK042CG1R1AD-W; Manufacturer: Taiyo Yuden; Temperature Coefficient: C0G, NP0; Tolerance: ±0.05pF; Value: 1.1pF; Applications: General Purpose; Capacitance: 1.1pF; ComponentLink1Description: Datasheet; ComponentLink1URL: https://ds.yuden.co.jp/TYCOMPAS/ut/detail?pn=TMK042CG1R1AD-W &u=M; ComponentLink2Description: DigiKey Link; ComponentLink2URL: http://digikey.com/product-detail/en/taiyo-yuden/TMK042CG1R1AD-W/587-5666-1-ND/7431194; Device Package: 01005 (0402 Metric); LastUpdated: 9/2/2020 1:27:43 AM; Lifecycle Status: Active; Minimum Order: 1; Mounting Type: Surface Mount, MLCC; Operating Temperature: -55°C ~ 125°C; Package / Case: 01005 (0402 Metric); Packaging: TapeAndReel; Part Status: Active; Price: 0.01; Series: M; Size / Dimension: 0.016" L x 0.008" W (0.40mm x 0.20mm); Supplier 1: DigiKey; Supplier Part Number 1: 587-5666-1-ND; Thickness (Max): 0.009" (0.22mm); Voltage - Rated: 25V
footprint CAP 01005_0402
pins: 1, 2

## TMK042CG1R2AD-W
designator C?, comment 1.2pF
CAP CER 1.2PF 25V C0G/NP0 01005; Part Number: TMK042CG1R2AD-W; Manufacturer: Taiyo Yuden; Temperature Coefficient: C0G, NP0; Tolerance: ±0.05pF; Value: 1.2pF; Applications: General Purpose; Capacitance: 1.2pF; ComponentLink1Description: Datasheet; ComponentLink1URL: https://ds.yuden.co.jp/TYCOMPAS/ut/detail?pn=TMK042CG1R2AD-W &u=M; ComponentLink2Description: DigiKey Link; ComponentLink2URL: http://digikey.com/product-detail/en/taiyo-yuden/TMK042CG1R2AD-W/587-5667-1-ND/7431195; Device Package: 01005 (0402 Metric); LastUpdated: 9/2/2020 1:27:43 AM; Lifecycle Status: Active; Minimum Order: 1; Mounting Type: Surface Mount, MLCC; Operating Temperature: -55°C ~ 125°C; Package / Case: 01005 (0402 Metric); Packaging: TapeAndReel; Part Status: Active; Price: 0.01; Series: M; Size / Dimension: 0.016" L x 0.008" W (0.40mm x 0.20mm); Supplier 1: DigiKey; Supplier Part Number 1: 587-5667-1-ND; Thickness (Max): 0.009" (0.22mm); Voltage - Rated: 25V
footprint CAP 01005_0402
pins: 1, 2

## TMK042CG1R3AD-W
designator C?, comment 1.3pF
CAP CER 1.3PF 25V C0G/NP0 01005; Part Number: TMK042CG1R3AD-W; Manufacturer: Taiyo Yuden; Temperature Coefficient: C0G, NP0; Tolerance: ±0.05pF; Value: 1.3pF; Applications: General Purpose; Capacitance: 1.3pF; ComponentLink1Description: Datasheet; ComponentLink1URL: https://ds.yuden.co.jp/TYCOMPAS/ut/detail?pn=TMK042CG1R3AD-W &u=M; ComponentLink2Description: DigiKey Link; ComponentLink2URL: http://digikey.com/product-detail/en/taiyo-yuden/TMK042CG1R3AD-W/587-5668-1-ND/7431196; Device Package: 01005 (0402 Metric); LastUpdated: 9/2/2020 1:27:43 AM; Lifecycle Status: Active; Minimum Order: 1; Mounting Type: Surface Mount, MLCC; Operating Temperature: -55°C ~ 125°C; Package / Case: 01005 (0402 Metric); Packaging: TapeAndReel; Part Status: Active; Price: 0.01; Series: M; Size / Dimension: 0.016" L x 0.008" W (0.40mm x 0.20mm); Supplier 1: DigiKey; Supplier Part Number 1: 587-5668-1-ND; Thickness (Max): 0.009" (0.22mm); Voltage - Rated: 25V
footprint CAP 01005_0402
pins: 1, 2

## TMK042CG1R4AD-W
designator C?, comment 1.4pF
CAP CER 1.4PF 25V C0G/NP0 01005; Part Number: TMK042CG1R4AD-W; Manufacturer: Taiyo Yuden; Temperature Coefficient: C0G, NP0; Tolerance: ±0.05pF; Value: 1.4pF; Applications: General Purpose; Capacitance: 1.4pF; ComponentLink1Description: Datasheet; ComponentLink1URL: https://ds.yuden.co.jp/TYCOMPAS/ut/detail?pn=TMK042CG1R4AD-W &u=M; ComponentLink2Description: DigiKey Link; ComponentLink2URL: http://digikey.com/product-detail/en/taiyo-yuden/TMK042CG1R4AD-W/587-5669-1-ND/7431197; Device Package: 01005 (0402 Metric); LastUpdated: 9/2/2020 1:27:43 AM; Lifecycle Status: Active; Minimum Order: 1; Mounting Type: Surface Mount, MLCC; Operating Temperature: -55°C ~ 125°C; Package / Case: 01005 (0402 Metric); Packaging: TapeAndReel; Part Status: Active; Price: 0.01; Series: M; Size / Dimension: 0.016" L x 0.008" W (0.40mm x 0.20mm); Supplier 1: DigiKey; Supplier Part Number 1: 587-5669-1-ND; Thickness (Max): 0.009" (0.22mm); Voltage - Rated: 25V
footprint CAP 01005_0402
pins: 1, 2

## TMK042CG1R5AD-W
designator C?, comment 1.5pF
CAP CER 1.5PF 25V C0G/NP0 01005; Part Number: TMK042CG1R5AD-W; Manufacturer: Taiyo Yuden; Temperature Coefficient: C0G, NP0; Tolerance: ±0.05pF; Value: 1.5pF; Applications: General Purpose; Capacitance: 1.5pF; ComponentLink1Description: Datasheet; ComponentLink1URL: https://ds.yuden.co.jp/TYCOMPAS/ut/detail?pn=TMK042CG1R5AD-W &u=M; ComponentLink2Description: DigiKey Link; ComponentLink2URL: http://digikey.com/product-detail/en/taiyo-yuden/TMK042CG1R5AD-W/587-5670-1-ND/7431198; Device Package: 01005 (0402 Metric); LastUpdated: 9/2/2020 1:27:43 AM; Lifecycle Status: Active; Minimum Order: 1; Mounting Type: Surface Mount, MLCC; Operating Temperature: -55°C ~ 125°C; Package / Case: 01005 (0402 Metric); Packaging: TapeAndReel; Part Status: Active; Price: 0.01; Series: M; Size / Dimension: 0.016" L x 0.008" W (0.40mm x 0.20mm); Supplier 1: DigiKey; Supplier Part Number 1: 587-5670-1-ND; Thickness (Max): 0.009" (0.22mm); Voltage - Rated: 25V
footprint CAP 01005_0402
pins: 1, 2

## TMK042CG1R6AD-W
designator C?, comment 1.6pF
CAP CER 1.6PF 25V C0G/NP0 01005; Part Number: TMK042CG1R6AD-W; Manufacturer: Taiyo Yuden; Temperature Coefficient: C0G, NP0; Tolerance: ±0.05pF; Value: 1.6pF; Applications: General Purpose; Capacitance: 1.6pF; ComponentLink1Description: Datasheet; ComponentLink1URL: https://ds.yuden.co.jp/TYCOMPAS/ut/detail?pn=TMK042CG1R6AD-W &u=M; ComponentLink2Description: DigiKey Link; ComponentLink2URL: http://digikey.com/product-detail/en/taiyo-yuden/TMK042CG1R6AD-W/587-5671-1-ND/7431199; Device Package: 01005 (0402 Metric); LastUpdated: 9/2/2020 1:27:43 AM; Lifecycle Status: Active; Minimum Order: 1; Mounting Type: Surface Mount, MLCC; Operating Temperature: -55°C ~ 125°C; Package / Case: 01005 (0402 Metric); Packaging: TapeAndReel; Part Status: Active; Price: 0.01; Series: M; Size / Dimension: 0.016" L x 0.008" W (0.40mm x 0.20mm); Supplier 1: DigiKey; Supplier Part Number 1: 587-5671-1-ND; Thickness (Max): 0.009" (0.22mm); Voltage - Rated: 25V
footprint CAP 01005_0402
pins: 1, 2

## TMK042CG1R7AD-W
designator C?, comment 1.7pF
CAP CER 1.7PF 25V C0G/NP0 01005; Part Number: TMK042CG1R7AD-W; Manufacturer: Taiyo Yuden; Temperature Coefficient: C0G, NP0; Tolerance: ±0.05pF; Value: 1.7pF; Applications: General Purpose; Capacitance: 1.7pF; ComponentLink1Description: Datasheet; ComponentLink1URL: https://ds.yuden.co.jp/TYCOMPAS/ut/detail?pn=TMK042CG1R7AD-W &u=M; ComponentLink2Description: DigiKey Link; ComponentLink2URL: http://digikey.com/product-detail/en/taiyo-yuden/TMK042CG1R7AD-W/587-5672-1-ND/7431200; Device Package: 01005 (0402 Metric); LastUpdated: 9/2/2020 1:27:43 AM; Lifecycle Status: Active; Minimum Order: 1; Mounting Type: Surface Mount, MLCC; Operating Temperature: -55°C ~ 125°C; Package / Case: 01005 (0402 Metric); Packaging: TapeAndReel; Part Status: Active; Price: 0.01; Series: M; Size / Dimension: 0.016" L x 0.008" W (0.40mm x 0.20mm); Supplier 1: DigiKey; Supplier Part Number 1: 587-5672-1-ND; Thickness (Max): 0.009" (0.22mm); Voltage - Rated: 25V
footprint CAP 01005_0402
pins: 1, 2

## TMK042CG1R8AD-W
designator C?, comment 1.8pF
CAP CER 1.8PF 25V C0G/NP0 01005; Part Number: TMK042CG1R8AD-W; Manufacturer: Taiyo Yuden; Temperature Coefficient: C0G, NP0; Tolerance: ±0.05pF; Value: 1.8pF; Applications: General Purpose; Capacitance: 1.8pF; ComponentLink1Description: Datasheet; ComponentLink1URL: https://ds.yuden.co.jp/TYCOMPAS/ut/detail?pn=TMK042CG1R8AD-W &u=M; ComponentLink2Description: DigiKey Link; ComponentLink2URL: http://digikey.com/product-detail/en/taiyo-yuden/TMK042CG1R8AD-W/587-5673-1-ND/7431201; Device Package: 01005 (0402 Metric); LastUpdated: 9/2/2020 1:27:43 AM; Lifecycle Status: Active; Minimum Order: 1; Mounting Type: Surface Mount, MLCC; Operating Temperature: -55°C ~ 125°C; Package / Case: 01005 (0402 Metric); Packaging: TapeAndReel; Part Status: Active; Price: 0.01; Series: M; Size / Dimension: 0.016" L x 0.008" W (0.40mm x 0.20mm); Supplier 1: DigiKey; Supplier Part Number 1: 587-5673-1-ND; Thickness (Max): 0.009" (0.22mm); Voltage - Rated: 25V
footprint CAP 01005_0402
pins: 1, 2

## TMK042CG1R9AD-W
designator C?, comment 1.9pF
CAP CER 1.9PF 25V C0G/NP0 01005; Part Number: TMK042CG1R9AD-W; Manufacturer: Taiyo Yuden; Temperature Coefficient: C0G, NP0; Tolerance: ±0.05pF; Value: 1.9pF; Applications: General Purpose; Capacitance: 1.9pF; ComponentLink1Description: Datasheet; ComponentLink1URL: https://ds.yuden.co.jp/TYCOMPAS/ut/detail?pn=TMK042CG1R9AD-W &u=M; ComponentLink2Description: DigiKey Link; ComponentLink2URL: http://digikey.com/product-detail/en/taiyo-yuden/TMK042CG1R9AD-W/587-5674-1-ND/7431202; Device Package: 01005 (0402 Metric); LastUpdated: 9/2/2020 1:27:43 AM; Lifecycle Status: Active; Minimum Order: 1; Mounting Type: Surface Mount, MLCC; Operating Temperature: -55°C ~ 125°C; Package / Case: 01005 (0402 Metric); Packaging: TapeAndReel; Part Status: Active; Price: 0.01; Series: M; Size / Dimension: 0.016" L x 0.008" W (0.40mm x 0.20mm); Supplier 1: DigiKey; Supplier Part Number 1: 587-5674-1-ND; Thickness (Max): 0.009" (0.22mm); Voltage - Rated: 25V
footprint CAP 01005_0402
pins: 1, 2

## TMK042CG2R1AD-W
designator C?, comment 2.1pF
CAP CER 2.1PF 25V C0G/NP0 01005; Part Number: TMK042CG2R1AD-W; Manufacturer: Taiyo Yuden; Temperature Coefficient: C0G, NP0; Tolerance: ±0.05pF; Value: 2.1pF; Applications: General Purpose; Capacitance: 2.1pF; ComponentLink1Description: Datasheet; ComponentLink1URL: https://ds.yuden.co.jp/TYCOMPAS/ut/detail?pn=TMK042CG2R1AD-W &u=M; ComponentLink2Description: DigiKey Link; ComponentLink2URL: http://digikey.com/product-detail/en/taiyo-yuden/TMK042CG2R1AD-W/587-5676-1-ND/7431204; Device Package: 01005 (0402 Metric); LastUpdated: 9/2/2020 1:27:43 AM; Lifecycle Status: Active; Minimum Order: 1; Mounting Type: Surface Mount, MLCC; Operating Temperature: -55°C ~ 125°C; Package / Case: 01005 (0402 Metric); Packaging: TapeAndReel; Part Status: Active; Price: 0.01; Series: M; Size / Dimension: 0.016" L x 0.008" W (0.40mm x 0.20mm); Supplier 1: DigiKey; Supplier Part Number 1: 587-5676-1-ND; Thickness (Max): 0.009" (0.22mm); Voltage - Rated: 25V
footprint CAP 01005_0402
pins: 1, 2

## TMK042CG2R2AD-W
designator C?, comment 2.2pF
CAP CER 2.2PF 25V C0G/NP0 01005; Part Number: TMK042CG2R2AD-W; Manufacturer: Taiyo Yuden; Temperature Coefficient: C0G, NP0; Tolerance: ±0.05pF; Value: 2.2pF; Applications: General Purpose; Capacitance: 2.2pF; ComponentLink1Description: Datasheet; ComponentLink1URL: https://ds.yuden.co.jp/TYCOMPAS/ut/detail?pn=TMK042CG2R2AD-W &u=M; ComponentLink2Description: DigiKey Link; ComponentLink2URL: http://digikey.com/product-detail/en/taiyo-yuden/TMK042CG2R2AD-W/587-5677-1-ND/7431205; Device Package: 01005 (0402 Metric); LastUpdated: 9/2/2020 1:27:43 AM; Lifecycle Status: Active; Minimum Order: 1; Mounting Type: Surface Mount, MLCC; Operating Temperature: -55°C ~ 125°C; Package / Case: 01005 (0402 Metric); Packaging: TapeAndReel; Part Status: Active; Price: 0.01; Series: M; Size / Dimension: 0.016" L x 0.008" W (0.40mm x 0.20mm); Supplier 1: DigiKey; Supplier Part Number 1: 587-5677-1-ND; Thickness (Max): 0.009" (0.22mm); Voltage - Rated: 25V
footprint CAP 01005_0402
pins: 1, 2